# Altium footprint library 43045-0400.PcbLib: 1 footprints
Each footprint in its own frame and in the unit in brackets; x right, y up, seen from the top. Pads: shape width x height; smd on the part's side, far side on the other; paste and mask are expansions set on the pad; w line width, h text height; cw(c..) or ccw(c..) is an arc to the next point about the centre after c.
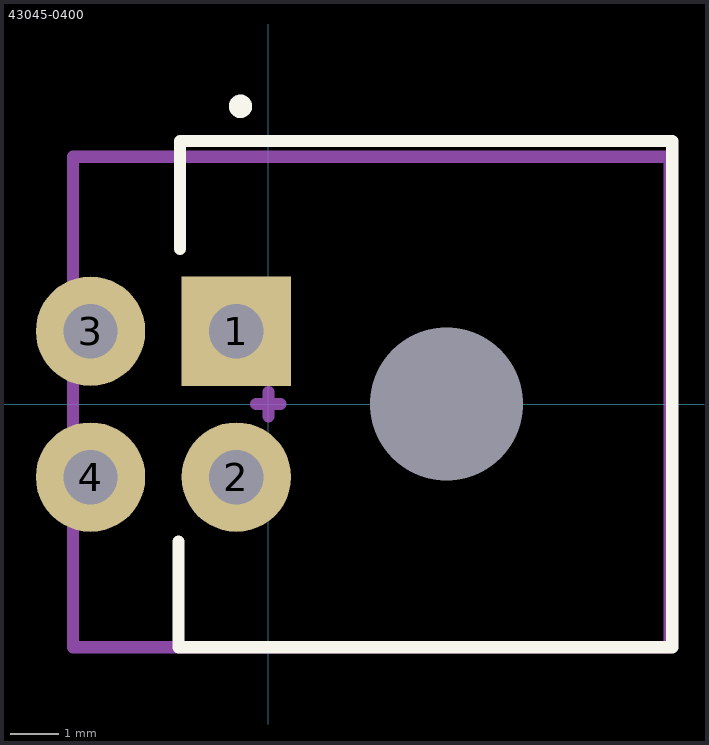
[diagram p0: the footprint, top view; thin cyan lines are the x and y axes]

## 43045-0400 [mm]
pads (5):
  rect 2.25x2.25 hole 1.12 mask+0.051: 1(-0.66,1.5)
  round 2.25 hole 1.12 mask+0.051: 2(-0.66,-1.5) 3(-3.66,1.5) 4(-3.66,-1.5)
  round 0 hole 3.15 mask+0.051: ""(3.66,0)
Top Overlay:
  circle w0.254: c-0.575,6.125 r0.114
  lines w0.25: -1.847,-2.825 -1.847,-5 8.303,-5 8.303,5.413 -1.822,5.413 -1.822,3.187
Mechanical 13:
  lines w0.25: -4.022,-5 8.253,-5 8.253,5.088 -4.022,5.088 -4.022,-5
Mechanical 15:
  lines w0.25: -0.25,0 0,0 ; 0,-0.25 0,0 ; 0,0.25 0,0 ; 0.25,0 0,0
3D body "430450400.stp": height 8.83, standoff -3.12, extent -4.015,-5.05 8.225,5.1